# EAGLE library part 24LC256_SO (library custom-2002)
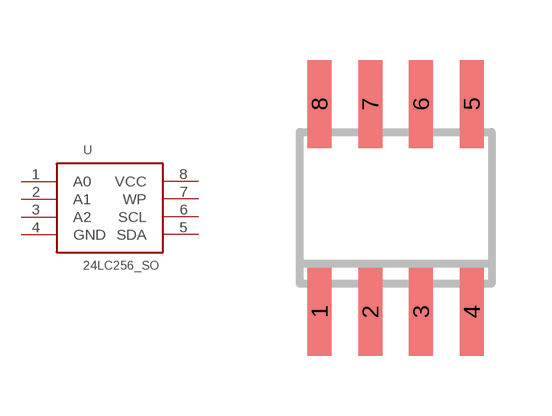
[diagram p20: symbol with the pads of SO-08; footprint SO-08]

Designator prefix -

## 24LC256_SO  [SO-08]
1  A0  in
2  A1  in
3  A2  in
4  GND  pwr
5  SDA
6  SCL
7  WP
8  VCC  pwr

## Footprint SO-08 (pad centres in mm)
smd 0.6 x 2.2: 1 -1.905,-2.6; 2 -0.635,-2.6; 3 0.635,-2.6; 4 1.905,-2.6; 5 1.905,2.6; 6 0.635,2.6; 7 -0.635,2.6; 8 -1.905,2.6